# Altium footprint library CUFabricV2.PcbLib: 21 footprints (part 1 of 2)
Each footprint in its own frame and in the unit in brackets; x right, y up, seen from the top. Pads: shape width x height; smd on the part's side, far side on the other; paste and mask are expansions set on the pad; w line width, h text height; cw(c..) or ccw(c..) is an arc to the next point about the centre after c.
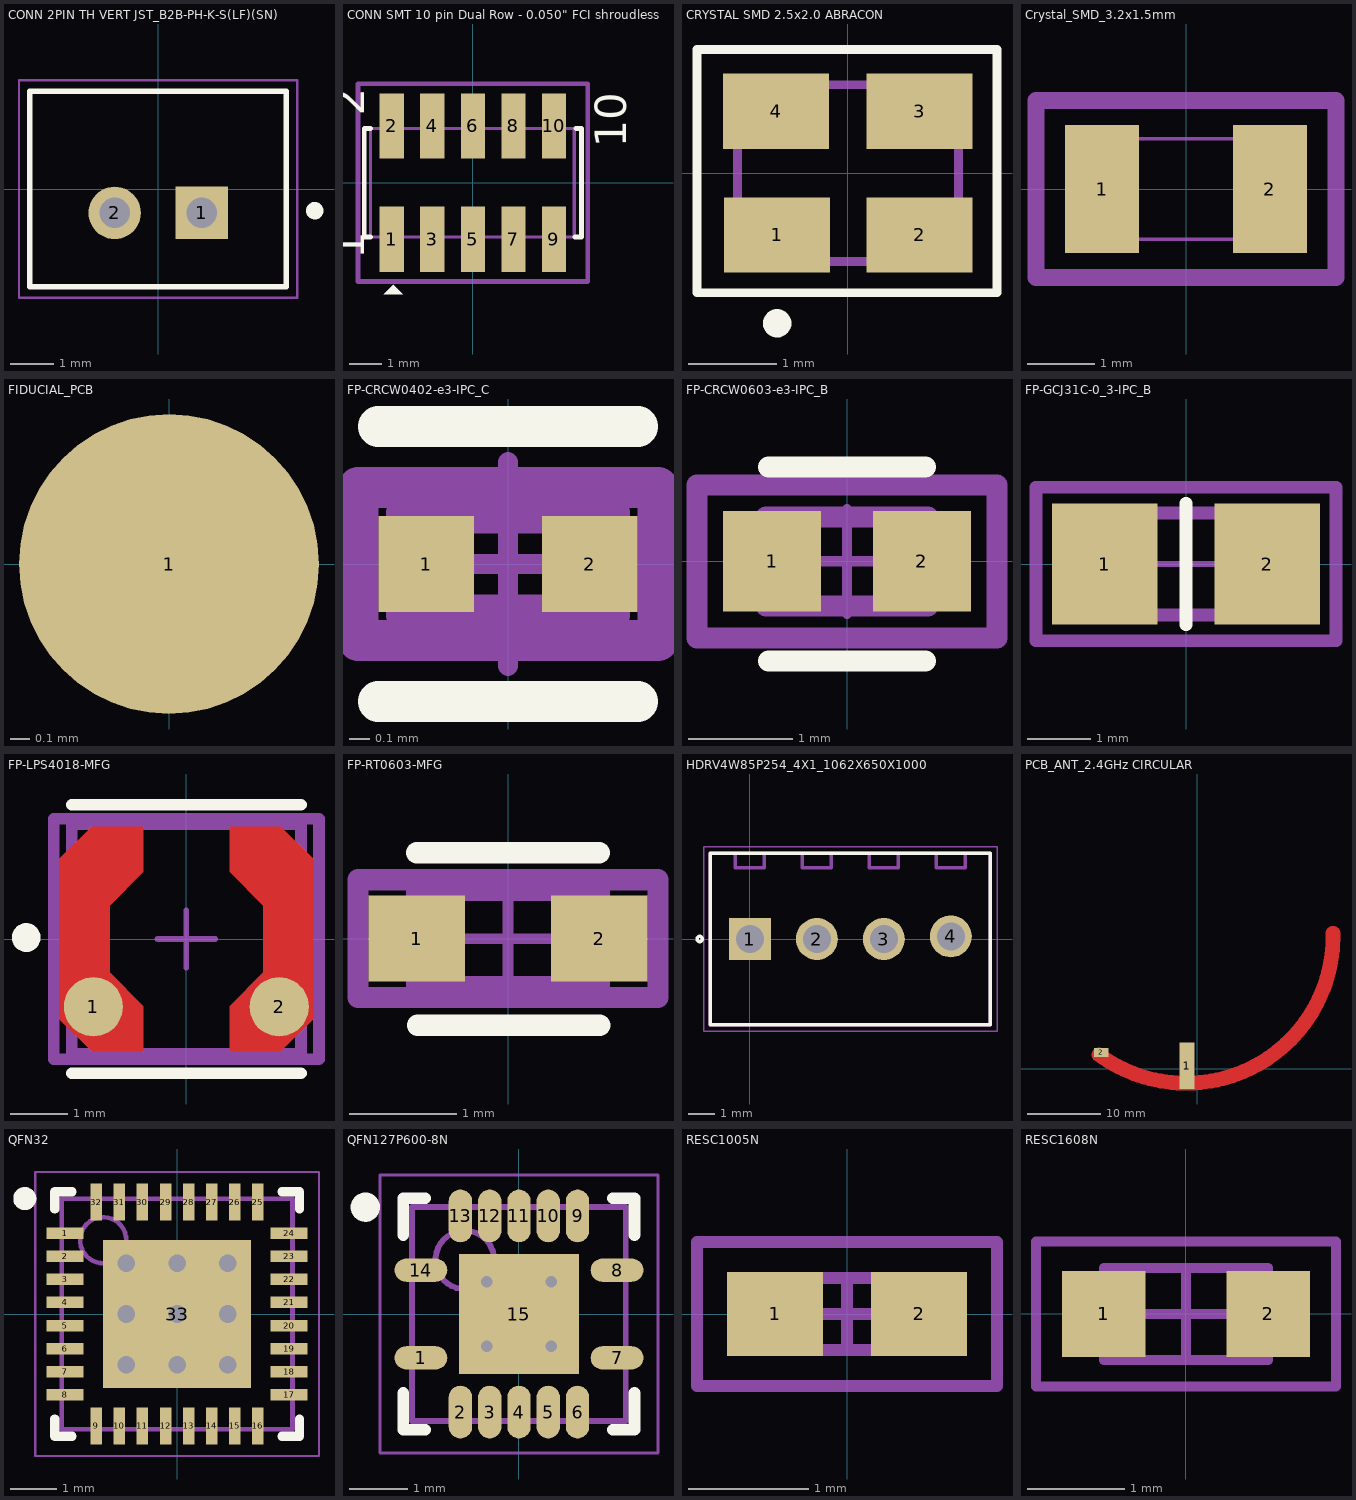
[diagram p0: the footprints below, top view; thin cyan lines are the x and y axes]

## CONN 2PIN TH VERT JST_B2B-PH-K-S(LF)(SN) [mm]
pads (2):
  rect 1.208x1.208 hole 0.7: 1(1,-0.55)
  round 1.208 hole 0.7: 2(-1,-0.55)
Top Overlay:
  circle w0.2: c3.6,-0.5 r0.1
  lines w0.127: -2.95,-2.25 2.95,-2.25 2.95,2.25 -2.95,2.25 -2.95,-2.25
Mechanical 15:
  lines w0.05: -3.2,-2.5 -3.2,2.5 3.2,2.5 3.2,-2.5 -3.2,-2.5
3D body "B2B-PH-K-S.STEP": height 6, standoff -3.4, extent -2.95,-2.25 2.95,2.25

## CONN SMT 10 pin Dual Row - 0.050" FCI shroudless [mm] "FCI 20021121-00010C4LF  2x10 shroudless header 0.050\" spacing, SMT"
height 5.97
pads (10):
  rect 0.76x2.05 smd: 1(-2.54,-1.775) 2(-2.54,1.775) 3(-1.27,-1.775) 4(-1.27,1.775) 5(0,-1.775) 6(0,1.775) 7(1.27,-1.775) 8(1.27,1.775) 9(2.54,-1.775) 10(2.54,1.775)
Top Overlay:
  region: -2.8,-3.5 -2.5,-3.2 -2.2,-3.5
  lines w0.15: -3.205,-1.7 -3.405,-1.7 -3.405,1.7 -3.205,1.7 ; 3.2,-1.7 3.405,-1.7 3.405,1.7 3.225,1.7
  text "1" at -3.4,-2.4 h1
  text "2" at -3.4,2.1 h1
  text "10" at 4.8,1.1 h1
Mechanical 13:
  lines w0.1: 3.175,-1.715 3.175,1.715 ; 3.2,-1.7 -3.205,-1.7 ; 3.2,1.7 -3.205,1.7 -3.205,-1.7 ; -3.205,-1.7 -3.205,-1.7
Mechanical 15:
  lines w0.15: -3.6,-3.1 3.6,-3.1 3.6,3.1 -3.6,3.1 -3.6,-3.1
3D body "20021121-00010XXLFc.stp": height 4.51, standoff 0.01, extent -3.175,-2.75 3.175,2.75

## CRYSTAL SMD 2.5x2.0 ABRACON [mm] "Pads for Abracon Crystal 2.5x2mm"
height 0.6
pads (4):
  rect 1.2x0.85 smd: 1(-0.8,-0.7) 2(0.813,-0.7) 3(0.813,0.7) 4(-0.813,0.7)
Top Overlay:
  circle w0.2: c-0.8,-1.7 r0.06
  lines w0.1: -1.707,-1.354 1.688,-1.354 1.688,-0.025 1.688,1.4 -1.707,1.4 -1.707,-1.354
Mechanical 1:
  lines w0.1: -1.25,-1 1.25,-1 1.25,1 -1.25,1 -1.25,-1
3D body: height 0.6, standoff 0, extent -1.3,-1.05 1.3,1.05

## Crystal_SMD_3.2x1.5mm [mm] "Pads to fit typical 32.768 crystal such as ECX-31B"
height 0.9
pads (2):
  rect 1.1x1.9 smd: 1(-1.25,0) 2(1.25,0)
Mechanical 1:
  lines w0.05: -1.6,-0.75 1.6,-0.75 1.6,0.75 -1.6,0.75 -1.6,-0.75
Mechanical 15:
  lines w0.254: -2.235,-1.321 -2.235,1.321 2.235,1.321 2.235,-1.321 -2.235,-1.321
3D body: height 0.9, standoff 0, extent -1.625,-0.775 1.625,0.775

## FIDUCIAL_PCB [mil]
pads (1):
  round 60 smd paste-62.99 mask+60: 1(0,0)

## FP-CRCW0402-e3-IPC_C [mm]
pads (2):
  rect 0.468x0.472 smd paste+0 mask+0: 1(-0.402,0) 2(0.402,0)
Top Overlay:
  lines w0.2: -0.636,-0.675 0.636,-0.675 ; -0.636,0.675 0.636,0.675
Top 3D Body:
  lines w0.2: -0.5,-0.25 0.5,-0.25 0.5,0.25 -0.5,0.25 -0.5,-0.25
Top Courtyard:
  lines w0.2: -0.736,-0.375 0.736,-0.375 0.736,0.375 -0.736,0.375 -0.736,-0.375
Top Assembly:
  lines w0.2: -0.736,-0.375 0.736,-0.375 0.736,0.375 -0.736,0.375 -0.736,-0.375
  text ".Designator" at 0,0.188 h1
Top Component Center:
  lines w0.1: -0.5,0 0.5,0 ; 0,-0.5 0,0.5
3D body "Res_Vishay_CRCW04021K00FKED_eec.STEP": height 0.25, standoff 0, extent -0.736,-0.375 0.736,0.375

## FP-CRCW0603-e3-IPC_B [mm]
pads (2):
  rect 0.935x0.962 smd paste+0 mask+0: 1(-0.715,0) 2(0.715,0)
Top Overlay:
  lines w0.2: -0.75,-0.95 0.75,-0.95 ; -0.75,0.9 0.75,0.9
Top 3D Body:
  lines w0.2: -0.775,-0.425 0.775,-0.425 0.775,0.425 -0.775,0.425 -0.775,-0.425
Top Courtyard:
  lines w0.2: -1.433,-0.731 1.433,-0.731 1.433,0.731 -1.433,0.731 -1.433,-0.731
Top Assembly:
  lines w0.2: -1.433,-0.731 1.433,-0.731 1.433,0.731 -1.433,0.731 -1.433,-0.731
  text ".Designator" at 0,0.188 h1
Top Component Center:
  lines w0.1: -0.5,0 0.5,0 ; 0,-0.5 0,0.5
3D body "Res_Vishay_CRCW06033M90FKEC_eec.STEP": height 0.25, standoff 0, extent -1.433,-0.731 1.433,0.731

## FP-GCJ31C-0_3-IPC_B [mm]
pads (2):
  rect 1.653x1.904 smd paste+0 mask+0: 1(-1.275,0) 2(1.275,0)
Top Overlay:
  lines w0.2: 0,-0.952 0,0.952
Top 3D Body:
  lines w0.2: -1.6,-0.8 1.6,-0.8 1.6,0.8 -1.6,0.8 -1.6,-0.8
Top Courtyard:
  lines w0.2: -2.352,-1.202 2.352,-1.202 2.352,1.202 -2.352,1.202 -2.352,-1.202
Top Assembly:
  lines w0.2: -2.352,-1.202 2.352,-1.202 2.352,1.202 -2.352,1.202 -2.352,-1.202
  text ".Designator" at 0,0 h1
Top Component Center:
  lines w0.1: -0.5,0 0.5,0 ; 0,-0.5 0,0.5
3D body "Cap_Murata_GCJ31CL8EL105KA07L_eec.STEP": height 0.25, standoff 0, extent -2.352,-1.202 2.352,1.202

## FP-LPS4018-MFG [mm]
pads (2):
  round 1.026 smd paste+0 mask+0: 1(-1.611,-1.175) 2(1.611,-1.175)
Top Layer:
  region: -2.2,-1.395 -2.2,1.395 -1.64,1.945 -0.75,1.945 -0.75,1.17 -1.33,0.575 -1.33,-0.575 -0.75,-1.17 -0.75,-1.945 -1.64,-1.945
  region: 2.2,-1.395 2.2,1.395 1.64,1.945 0.75,1.945 0.75,1.17 1.33,0.575 1.33,-0.575 0.75,-1.17 0.75,-1.945 1.64,-1.945
Top Overlay:
  circle w0.25: c-2.775,0.025 r0.125
  lines w0.2: -1.988,-2.325 1.988,-2.325 ; -1.988,2.325 1.988,2.325
Top 3D Body:
  lines w0.2: -1.988,-1.988 1.988,-1.988 1.988,1.988 -1.988,1.988 -1.988,-1.988
Top Courtyard:
  lines w0.2: -2.3,-2.088 2.3,-2.088 2.3,2.088 -2.3,2.088 -2.3,-2.088
Top Assembly:
  lines w0.2: -2.3,-2.088 2.3,-2.088 2.3,2.088 -2.3,2.088 -2.3,-2.088
  text ".Designator" at 0,0.188 h1
Top Component Center:
  lines w0.1: -0.5,0 0.5,0 ; 0,-0.5 0,0.5
3D body "Ind_Coilcraft_LPS4018-103MRB_eec.STEP": height 0.25, standoff 0, extent -2.3,-2.088 2.3,2.088

## FP-RT0603-MFG [mm]
pads (2):
  rect 0.9x0.8 smd paste+0 mask+0: 1(-0.85,0) 2(0.85,0)
Top Overlay:
  lines w0.2: -0.85,0.8 0.85,0.8 ; -0.845,-0.807 0.855,-0.807
Top 3D Body:
  lines w0.2: -0.85,-0.45 0.85,-0.45 0.85,0.45 -0.85,0.45 -0.85,-0.45
Top Courtyard:
  lines w0.2: -1.4,-0.55 1.4,-0.55 1.4,0.55 -1.4,0.55 -1.4,-0.55
Top Assembly:
  lines w0.2: -1.4,-0.55 1.4,-0.55 1.4,0.55 -1.4,0.55 -1.4,-0.55
  text ".Designator" at 0,0.188 h1
Top Component Center:
  lines w0.1: -0.5,0 0.5,0 ; 0,-0.5 0,0.5
3D body "Res_Yageo_RT0603CRE0724K3L_eec.STEP": height 0.25, standoff 0, extent -1.4,-0.55 1.4,0.55

## HDRV4W85P254_4X1_1062X650X1000 [mm]
pads (4):
  rect 1.59x1.59 hole 1.06: 1(0,0)
  round 1.59 hole 1.06: 2(2.54,0) 3(5.08,0) 4(7.62,0.1)
Top Overlay:
  circle w0.127: c-1.905,0 r0.1
  lines w0.127: -1.5,-3.25 -1.5,3.25 9.12,3.25 9.12,-3.25 -1.5,-3.25
Mechanical 13:
  lines w0.127: -0.55,3.2 -0.55,2.7 0.55,2.7 0.55,3.2 ; 1.99,3.2 1.99,2.7 3.09,2.7 3.09,3.2 ; 4.53,3.2 4.53,2.7 5.63,2.7 5.63,3.2 ; 7.07,3.2 7.07,2.7 8.17,2.7 8.17,3.2 ; -1.5,-3.25 9.12,-3.25 9.12,3.25 -1.5,3.25 -1.5,-3.25
Mechanical 15:
  lines w0.05: -1.75,-3.5 9.37,-3.5 9.37,3.5 -1.75,3.5 -1.75,-3.5

## PCB_ANT_2.4GHz CIRCULAR [mm]
height 0.1
pads (2):
  rect 2x6.35 smd paste-4.5 mask+0: 1(-1.371,0.391)
  rect 2x1.27 smd paste-4.5 mask+0: 2(-13.077,2.2)
Top Layer:
  lines w2: -13.381,1.9 ccw(c-1.504,18.073) 18.559,18.455
Top Paste:
  rectangle: -14.992,-0.309 -14.954,8.683
  rectangle: -13.036,-0.334 -13.011,8.67
  rectangle: -14.992,-0.309 -14.954,8.683

## QFN32 [mm] "QFN127P600-8N"
height 0.55
pads (33):
  rect 0.8x0.25 smd: 1(-2.425,1.75) 2(-2.425,1.25) 3(-2.425,0.75) 4(-2.425,0.25) 5(-2.425,-0.25) 6(-2.425,-0.75) 7(-2.425,-1.25) 8(-2.425,-1.75) 17(2.425,-1.75) 18(2.425,-1.25) 19(2.425,-0.75) 20(2.425,-0.25) 21(2.425,0.25) 22(2.425,0.75) 23(2.425,1.25) 24(2.425,1.75)
  rect 0.25x0.8 smd: 9(-1.75,-2.425) 10(-1.25,-2.425) 11(-0.75,-2.425) 12(-0.25,-2.425) 13(0.25,-2.425) 14(0.75,-2.425) 15(1.25,-2.425) 16(1.75,-2.425) 25(1.75,2.425) 26(1.25,2.425) 27(0.75,2.425) 28(0.25,2.425) 29(-0.25,2.425) 30(-0.75,2.425) 31(-1.25,2.425) 32(-1.75,2.425)
  rect 3.2x3.2 smd paste-3.5: 33(0,0)
via 1.1,-1.1 diameter 0.635 hole 0.381
via -1.1,-1.1 diameter 0.635 hole 0.381
via 1.1,0 diameter 0.635 hole 0.381
via 0,0 diameter 0.635 hole 0.381
via -1.1,0 diameter 0.635 hole 0.381
via 1.1,1.1 diameter 0.635 hole 0.381
via 0,1.1 diameter 0.635 hole 0.381
via -1.1,1.1 diameter 0.635 hole 0.381
via 0,-1.1 diameter 0.635 hole 0.381
Top Overlay:
  circle w0.25: c-3.3,2.5 r0.125
  lines w0.2: -2.65,-2.275 -2.65,-2.65 -2.275,-2.65 ; -2.65,2.275 -2.65,2.65 -2.275,2.65 ; 2.275,-2.65 2.65,-2.65 2.65,-2.275 ; 2.275,2.65 2.65,2.65 2.65,2.275
Top Paste:
  region: 0.13,-0.15 1.53,-0.15 1.53,-1.5 0.13,-1.5
  region: -1.53,-0.15 -0.13,-0.15 -0.13,-1.5 -1.53,-1.5
  region: 0.13,1.515 1.53,1.515 1.53,0.165 0.13,0.165
  region: -1.53,1.515 -0.13,1.515 -0.13,0.165 -1.53,0.165
Mechanical 13:
  circle w0.1: c-1.6,1.6 r0.5
  lines w0.1: -2.5,-2.5 2.5,-2.5 2.5,2.5 -2.5,2.5 -2.5,-2.5
Mechanical 15:
  lines w0.05: -3.075,-3.075 3.075,-3.075 3.075,3.075 -3.075,3.075 -3.075,-3.075
  lines w0.1: -0.5,0 0.5,0 ; 0,-0.5 0,0.5
3D body "QFN32.step": height 0.55, standoff 0, extent -2.52,-2.52 2.52,2.52

## QFN127P600-8N [mm]
height 0.8
pads (15):
  oval 0.9x0.4 smd: 1(-1.675,-0.75) 7(1.675,-0.75) 8(1.675,0.75) 14(-1.675,0.75)
  oval 0.4x0.9 smd: 2(-1,-1.675) 3(-0.5,-1.675) 4(0,-1.675) 5(0.5,-1.675) 6(1,-1.675) 9(1,1.675) 10(0.5,1.675) 11(0,1.675) 12(-0.5,1.675) 13(-1,1.675)
  rect 2.05x2.05 smd: 15(0,0)
via 0.55,-0.55 diameter 0.5 hole 0.2
via -0.55,-0.55 diameter 0.5 hole 0.2
via 0.55,0.55 diameter 0.5 hole 0.2
via -0.55,0.55 diameter 0.5 hole 0.2
Top Overlay:
  circle w0.25: c-2.625,1.825 r0.125
  lines w0.2: -1.975,-1.35 -1.975,-1.975 -1.6,-1.975 ; -1.975,1.35 -1.975,1.975 -1.6,1.975 ; 1.6,-1.975 1.975,-1.975 1.975,-1.35 ; 1.6,1.975 1.975,1.975 1.975,1.35
Mechanical 13:
  circle w0.1: c-0.925,0.925 r0.5
  lines w0.1: -1.825,-1.825 1.825,-1.825 1.825,1.825 -1.825,1.825 -1.825,-1.825
Mechanical 15:
  lines w0.05: -2.375,-2.375 2.375,-2.375 2.375,2.375 -2.375,2.375 -2.375,-2.375
  lines w0.1: -0.5,0 0.5,0 ; 0,-0.5 0,0.5
3D body: height 1, standoff 0.8, extent -1.825,-1.825 1.825,1.825

## RESC1005N [mm] "Chip Resistor, Body 1.1x0.5mm, IPC Medium Density"
height 0.4
pads (2):
  rect 0.8x0.7 smd: 1(-0.6,0) 2(0.6,0)
Mechanical 13:
  lines w0.1: -0.55,-0.3 -0.55,0.3 0.55,0.3 0.55,-0.3 -0.55,-0.3
Mechanical 15:
  lines w0.1: -0.3,0 0.3,0 ; 0,-0.3 0,0.3 ; -1.25,-0.6 -1.25,0.6 1.25,0.6 1.25,-0.6 -1.25,-0.6
3D body: height 0.4, standoff 0, extent -0.55,-0.3 0.55,0.3

## RESC1608N [mil]
pads (2):
  rect 34x35 smd: 1(-33.46,0) 2(33.46,0)
Mechanical 13:
  lines w3.94: -33.46,-18.7 33.46,-18.7 33.46,18.7 -33.46,18.7 -33.46,-18.7
Mechanical 15:
  lines w3.94: -18.7,0 18.7,0 ; 0,-18.7 0,18.7 ; -61.02,-29.53 61.02,-29.53 61.02,29.53 -61.02,29.53 -61.02,-29.53
3D body: height 23.62, standoff 0, extent -33.46,-18.7 33.46,18.7